# Altium footprint library SD卡卡座.PcbLib: 9 footprints
Each footprint in its own frame and in the unit in brackets; x right, y up, seen from the top. Pads: shape width x height; smd on the part's side, far side on the other; paste and mask are expansions set on the pad; w line width, h text height; cw(c..) or ccw(c..) is an arc to the next point about the centre after c.
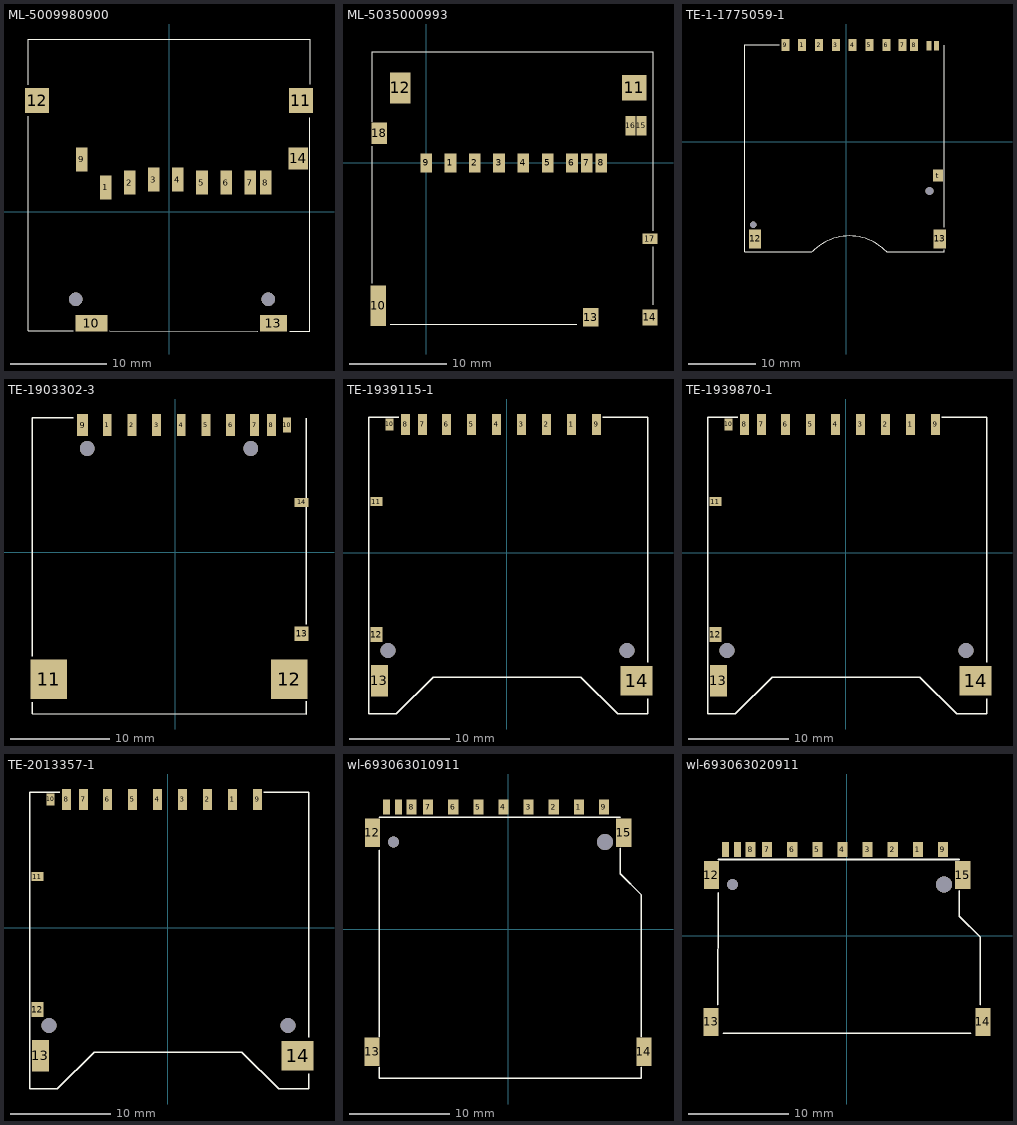
[diagram p0: the footprints below, top view; thin cyan lines are the x and y axes]

## ML-5009980900 [mm] "关注智芯Player公众号获取更多知识"
pads (14):
  rect 1.2x2.5 smd: 1(-6.575,2.55) 2(-4.075,3.05) 3(-1.575,3.35) 4(0.925,3.35) 5(3.425,3.05) 6(5.925,3.05) 7(8.425,3.05) 8(10.05,3.05) 9(-9.075,5.45)
  rect 3.3x1.7 smd: 10(-8.05,-11.55)
  rect 2.5x2.6 smd: 11(13.7,11.55) 12(-13.7,11.55)
  rect 2.8x1.7 smd: 13(10.85,-11.55)
  rect 2x2.3 smd: 14(13.425,5.55)
via -9.7,-9.05 diameter 1.4 hole 1.4
via 10.3,-9.05 diameter 1.4 hole 1.4
Top Overlay:
  lines w0.127: -14.625,-12.35 -9.921,-12.35 ; -14.625,-12.33 -14.615,9.936 ; -14.606,13.201 -14.606,17.954 14.65,17.954 14.65,13.25 ; -6.175,-12.35 9.2,-12.375 ; 12.55,-12.373 14.641,-12.373 14.641,9.8
3D body "5009980900.stp": height 3.15, standoff -0.45, extent -14.45,-12.22 14.45,17.83

## ML-5035000993 [mm] "关注智芯Player公众号获取更多知识"
pads (18):
  rect 1.2x1.95 smd: 1(2.5,0) 2(5,0) 3(7.5,0) 4(10,0) 5(12.5,0) 6(15,0) 7(16.525,0) 8(18.025,0) 9(0,0)
  rect 1.55x4.17 smd: 10(-4.925,-14.7)
  rect 2.5x2.6 smd: 11(21.42,7.725)
  rect 2.1x3.2 smd: 12(-2.655,7.725)
  rect 1.6x1.87 smd: 13(16.95,-15.875)
  rect 1.5x1.65 smd: 14(23.025,-15.875)
  rect 1x2 smd: 15(22.15,3.85) 16(21.025,3.85)
  rect 1.5x1.1 smd: 17(23.025,-7.8)
  rect 1.55x2.2 smd: 18(-4.825,3.05)
Top Overlay:
  lines w0.127: -5.525,-12.35 -5.525,1.7 ; -5.525,4.238 -5.525,11.45 ; -5.525,11.457 23.343,11.457 23.35,11.45 23.35,-6.95 ; -3.7,-16.581 15.475,-16.606 ; 23.35,-14.599 23.35,-8.631
3D body "5035000993.stp": height 3, standoff 0.05, extent -5.35,-16.425 23.25,11.375

## TE-1-1775059-1 [mm] "关注智芯Player公众号获取更多知识"
pads (14):
  rect 1.2x1.8 smd: 1(-6.585,14.4) 2(-4.085,14.4) 3(-1.585,14.4) 4(0.915,14.4) 5(3.415,14.4) 6(5.915,14.4) 7(8.34,14.4) 8(10.04,14.4) 9(-9.085,14.4)
  rect 0.7x1.4 smd: 10(12.27,14.3) 11(13.37,14.3)
  rect 1.8x2.8 smd: 12(-13.58,-14.4) 13(13.86,-14.4)
  rect 1.45x1.8 smd: t(13.59,-5)
via 12.34,-7.3 diameter 1.2 hole 1.2
via -13.86,-12.3 diameter 1 hole 1
Top Overlay:
  lines w0.127: -10.015,14.415 -15.109,14.415 -15.109,-16.344 -5.16,-16.344 ; -5.098,-16.342 cw(c0.439,-21.627) 5.978,-16.343 ; 5.965,-16.344 14.517,-16.344 14.517,-16.052 ; 14.515,-12.7 14.517,14.395
3D body "c-1-1775059-1-d1-3d.stp": height 2.83, standoff -0.58, extent -14.96,-16.225 14.35,14.375

## TE-1903302-3 [mm] "关注智芯Player公众号获取更多知识"
pads (14):
  rect 0.9x2.25 smd: 1(-6.872,12.878) 2(-4.372,12.878) 3(-1.872,12.878) 4(0.628,12.878) 5(3.128,12.878) 6(5.628,12.878) 7(8.053,12.878) 8(9.753,12.878)
  rect 1.1x2.25 smd: 9(-9.372,12.878)
  rect 0.8x1.5 smd: 10(11.353,12.878)
  rect 3.7x4 smd: 11(-12.817,-12.877) 12(11.583,-12.877)
  rect 1.43x1.5 smd: 13(12.818,-8.257)
  rect 1.43x0.9 smd: 14(12.818,5.053)
via 7.668,10.523 diameter 1.5 hole 1.5
via -8.902,10.523 diameter 1.5 hole 1.5
Top Overlay:
  lines w0.127: -14.47,-15.175 -14.47,-16.379 13.302,-16.379 13.289,-15.075 ; -14.47,-10.525 -14.47,13.646 -10.303,13.646 ; 13.275,-7.275 13.275,13.575
3D body "c-1903302-3-f-3d.stp": height 3.92, standoff -0.41, extent -14.393,-16.333 13.158,13.567

## TE-1939115-1 [mm] "关注智芯Player公众号获取更多知识"
pads (14):
  rect 0.9x2.1 smd: 1(6.515,12.831) 2(4.015,12.831) 3(1.515,12.831) 4(-0.985,12.831) 5(-3.485,12.831) 6(-5.985,12.831) 7(-8.41,12.831) 8(-10.11,12.831) 9(9.015,12.831)
  rect 0.8x1.2 smd: 10(-11.71,12.831)
  rect 1.2x0.9 smd: 11(-13.04,5.099)
  rect 1.2x1.5 smd: 12(-13.04,-8.211)
  rect 1.7x3.2 smd: 13(-12.74,-12.831)
  rect 3.2x3 smd: 14(13.04,-12.831)
via 12.085,-9.781 diameter 1.5 hole 1.5
via -11.855,-9.781 diameter 1.5 hole 1.5
Top Overlay:
  lines w0.127: -13.801,13.538 -13.801,-16.162 -11.026,-16.162 -7.326,-12.462 7.449,-12.462 11.149,-16.162 14.149,-16.162 14.149,-14.637 ; -13.798,13.57 -10.801,13.57 ; 9.645,13.538 14.149,13.538 ; 14.149,-10.987 14.149,13.538 ; 14.149,13.538 14.149,13.538 ; 14.149,13.538 14.149,13.538
3D body "c-1939115-1-c-3d.stp": height 2.74, standoff -0.61, extent -13.665,-16.237 14.015,13.463

## TE-1939870-1 [mm] "关注智芯Player公众号获取更多知识"
pads (14):
  rect 0.9x2.1 smd: 1(6.515,12.831) 2(4.015,12.831) 3(1.515,12.831) 4(-0.985,12.831) 5(-3.485,12.831) 6(-5.985,12.831) 7(-8.41,12.831) 8(-10.11,12.831) 9(9.015,12.831)
  rect 0.8x1.2 smd: 10(-11.71,12.831)
  rect 1.2x0.9 smd: 11(-13.04,5.099)
  rect 1.2x1.5 smd: 12(-13.04,-8.211)
  rect 1.7x3.2 smd: 13(-12.74,-12.831)
  rect 3.2x3 smd: 14(13.04,-12.831)
via -11.855,-9.781 diameter 1.5 hole 1.5
via 12.085,-9.781 diameter 1.5 hole 1.5
Top Overlay:
  lines w0.127: -13.801,13.538 -13.801,-16.162 -11.026,-16.162 -7.326,-12.462 7.449,-12.462 11.149,-16.162 14.149,-16.162 14.149,-14.637 ; -13.798,13.57 -10.801,13.57 ; 9.645,13.538 14.149,13.538 ; 14.149,-10.987 14.149,13.538 ; 14.149,13.538 14.149,13.538 ; 14.149,13.538 14.149,13.538
3D body "c-1939870-1-b-3d.stp": height 3.73, standoff -0.61, extent -13.665,-16.237 14.015,13.463

## TE-2013357-1 [mm] "关注智芯Player公众号获取更多知识"
pads (14):
  rect 0.9x2.1 smd: 1(6.515,12.831) 2(4.015,12.831) 3(1.515,12.831) 4(-0.985,12.831) 5(-3.485,12.831) 6(-5.985,12.831) 7(-8.41,12.831) 8(-10.11,12.831) 9(9.015,12.831)
  rect 0.8x1.2 smd: 10(-11.71,12.831)
  rect 1.2x0.9 smd: 11(-13.04,5.099)
  rect 1.2x1.5 smd: 12(-13.04,-8.211)
  rect 1.7x3.2 smd: 13(-12.74,-12.831)
  rect 3.2x3 smd: 14(13.04,-12.831)
via 12.085,-9.781 diameter 1.5 hole 1.5
via -11.855,-9.781 diameter 1.5 hole 1.5
Top Overlay:
  lines w0.127: -13.801,13.538 -13.801,-16.162 -11.026,-16.162 -7.326,-12.462 7.449,-12.462 11.149,-16.162 14.149,-16.162 14.149,-14.637 ; -13.798,13.57 -10.801,13.57 ; 9.645,13.538 14.149,13.538 ; 14.149,-10.987 14.149,13.538 ; 14.149,13.538 14.149,13.538 ; 14.149,13.538 14.149,13.538
3D body "c-2013357-1-a-3d.stp": height 2.74, standoff -0.61, extent -13.665,-16.237 14.015,13.463

## wl-693063010911 [mm] "关注智芯Player公众号获取更多知识"
pads (15):
  rect 1x1.5 smd: 1(7.051,12.163) 2(4.551,12.163) 3(2.051,12.163) 4(-0.449,12.163) 5(-2.949,12.163) 6(-5.449,12.163) 7(-7.949,12.163) 8(-9.579,12.163) 9(9.551,12.163)
  rect 0.7x1.5 smd: 10(-10.879,12.163) 11(-12.079,12.163)
  rect 1.5x2.8 smd: 12(-13.499,9.623) 13(-13.524,-12.163) 14(13.524,-12.163) 15(11.52,9.623)
via 9.646,8.698 diameter 1.6 hole 1.6
via -11.374,8.688 diameter 1.1 hole 1.1
Top Overlay:
  lines w0.152: -12.83,-14.803 -12.83,-13.703 ; -12.824,-14.813 13.276,-14.813 13.276,-13.712 ; -12.824,-10.697 -12.824,7.888 ; -12.824,11.178 11.176,11.178 ; 11.176,8.088 11.176,5.537 13.276,3.437 13.276,-10.697
3D body "693063010911 (rev1).stp": height 3.42, standoff -0.53, extent -13.83,-14.812 14.17,11.987

## wl-693063020911 [mm] "关注智芯Player公众号获取更多知识"
pads (15):
  rect 1x1.5 smd: 1(7.051,8.57) 2(4.551,8.57) 3(2.051,8.57) 4(-0.449,8.57) 5(-2.949,8.57) 6(-5.449,8.57) 7(-7.949,8.57) 8(-9.579,8.57) 9(9.551,8.57)
  rect 0.7x1.5 smd: 10(-10.879,8.57) 11(-12.079,8.57)
  rect 1.5x2.8 smd: 12(-13.499,6.03) 13(-13.524,-8.57) 14(13.524,-8.57) 15(11.52,6.03)
via -11.374,5.095 diameter 1.1 hole 1.1
via 9.646,5.105 diameter 1.6 hole 1.6
Top Overlay:
  lines w0.152: -12.849,-6.87 -12.824,4.295 ; -12.824,7.585 11.176,7.585 ; -12.299,-9.695 12.301,-9.695 ; 11.176,4.496 11.176,1.945 13.276,-0.155 13.276,-6.87
3D body "693063020911 (rev1).stp": height 3.42, standoff -0.58, extent -13.689,-9.505 13.961,8.495